# Altium footprint library 68610614122.PcbLib: 1 footprints
Each footprint in its own frame and in the unit in brackets; x right, y up, seen from the top. Pads: shape width x height; smd on the part's side, far side on the other; paste and mask are expansions set on the pad; w line width, h text height; cw(c..) or ccw(c..) is an arc to the next point about the centre after c.
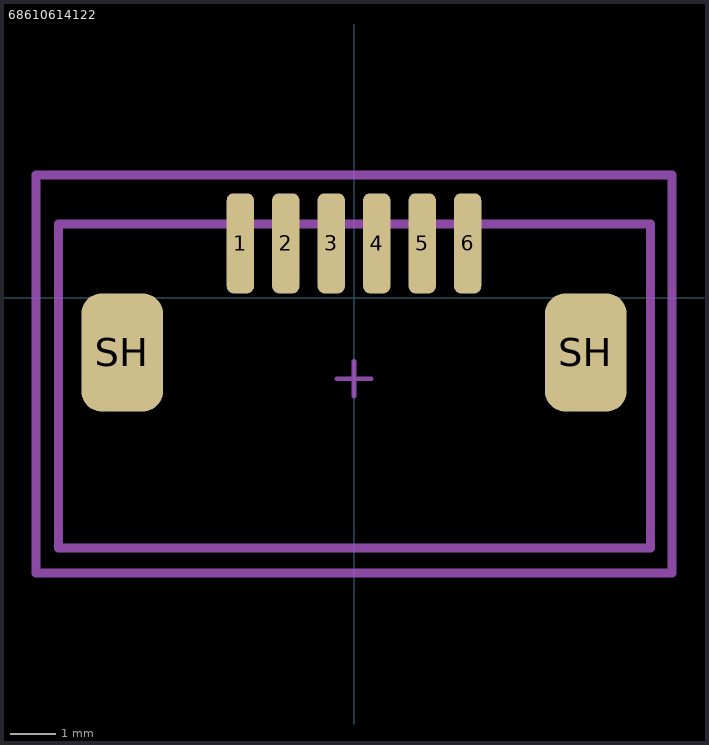
[diagram p0: the footprint, top view; thin cyan lines are the x and y axes]

## 68610614122 [mm]
pads (8):
  rrect50% 0.6x2.2 smd mask+0.07: 1(-2.5,1.2) 2(-1.5,1.2) 3(-0.5,1.2) 4(0.5,1.2) 5(1.5,1.2) 6(2.5,1.2)
  rrect50% 1.8x2.6 smd mask+0.07: SH(-5.1,-1.2) SH(5.1,-1.2)
Top Assembly:
  lines w0.2: -6.5,-5.5 -6.5,1.625 6.525,1.625 6.525,-5.5 -6.5,-5.5
Top Courtyard:
  lines w0.1: 0,-2.159 0,-1.778 ; 0,-1.397 0,-1.778 ; 0.381,-1.778 -0.381,-1.778 0,-1.778
  lines w0.2: -7,-6.05 -7,2.7 7,2.7 7,-6.05 -7,-6.05
3D body "68610614122 (rev1).stp": height 3, standoff 0, extent -6.5,-5.5 6.5,1.6